# Altium footprint library EPS.PcbLib: 38 footprints (part 2 of 3)
Each footprint in its own frame and in the unit in brackets; x right, y up, seen from the top. Pads: shape width x height; smd on the part's side, far side on the other; paste and mask are expansions set on the pad; w line width, h text height; cw(c..) or ccw(c..) is an arc to the next point about the centre after c.
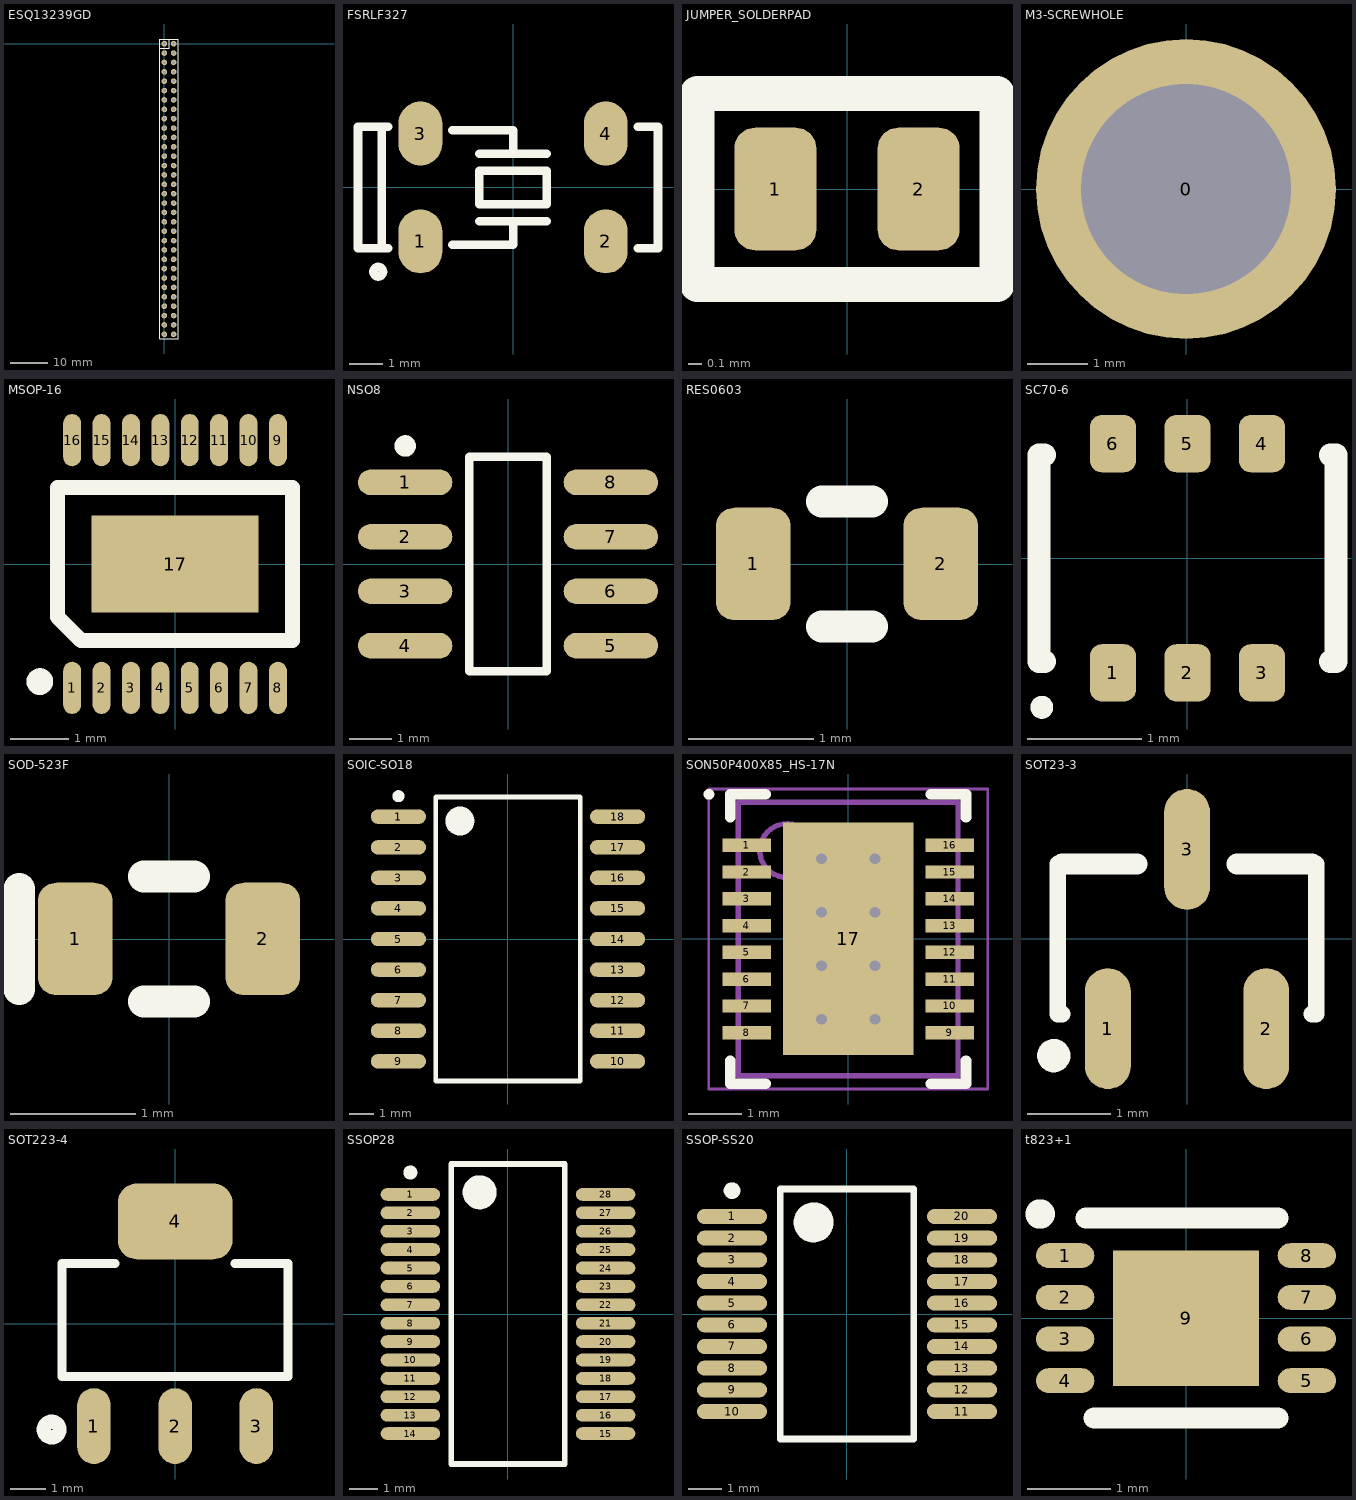
[diagram p1: the footprints below, top view; thin cyan lines are the x and y axes]

## ESQ13239GD [mil] "Samtec 2.54mm 64 Way 2 Row Straight PCB Socket Through Hole Board to Board"
height 435.04
pads (64):
  round 60 hole 31.5: 1(0,0) 2(0,-100) 3(0,-200) 4(0,-300) 5(0,-400) 6(0,-500) 7(0,-600) 8(0,-700) 9(0,-800) 10(0,-900) 11(0,-1000) 12(0,-1100) 13(0,-1200) 14(0,-1300) 15(0,-1400) 16(0,-1500) 17(0,-1600) 18(0,-1700) 19(0,-1800) 20(0,-1900) 21(0,-2000) 22(0,-2100) 23(0,-2200) 24(0,-2300) 25(0,-2400) 26(0,-2500) 27(0,-2600) 28(0,-2700) 29(0,-2800) 30(0,-2900) 31(0,-3000) 32(0,-3100) 33(100,0) 34(100,-100) 35(100,-200) 36(100,-300) 37(100,-400) 38(100,-500) 39(100,-600) 40(100,-700) 41(100,-800) 42(100,-900) 43(100,-1000) 44(100,-1100) 45(100,-1200) 46(100,-1300) 47(100,-1400) 48(100,-1500) 49(100,-1600) 50(100,-1700) 51(100,-1800) 52(100,-1900) 53(100,-2000) 54(100,-2100) 55(100,-2200) 56(100,-2300) 57(100,-2400) 58(100,-2500) 59(100,-2600) 60(100,-2700) 61(100,-2800) 62(100,-2900) 63(100,-3000) 64(100,-3100)
Top Overlay:
  lines w10: -50,-50 50,-50 50,50 ; -50,-3150 150,-3150 150,50 -50,50 -50,-3150
3D body: height 435.43, standoff -479.53, extent -50,-3160.04 144.88,60.04

## FSRLF327 [mm] "CRISTAL, 32.768KHZ, SMD"
height 2.5
pads (4):
  oval 1.3x1.9 smd: 1(-2.75,-1.6) 2(2.75,-1.6) 3(-2.75,1.6) 4(2.75,1.6)
Top Overlay:
  circle w0.254: c-4,-2.5 r0.141
  lines w0.254: -3.9,-1.8 -3.9,1.8 ; -3.7,-1.8 -4.6,-1.8 -4.6,1.8 -3.7,1.8 ; -1.8,-1.7 0,-1.7 0,-1 ; -1.8,1.7 0,1.7 0,1 ; -1,-1 1,-1 ; -1,1 1,1 ; 3.7,-1.8 4.3,-1.8 4.3,1.8 3.7,1.8 ; -1,-0.5 -1,0.5 1,0.5 1,-0.5 -1,-0.5
3D body: height 2.4, standoff 0, extent -4.35,-1.85 4.35,1.85

## JUMPER_SOLDERPAD [mm]
pads (2):
  rrect50% 0.6x0.9 smd: 1(-0.525,0) 2(0.525,0)
Top Overlay:
  lines w0.254: -1.1,-0.7 -1.1,0.7 1.1,0.7 1.1,-0.7 -1.1,-0.7

## M3-SCREWHOLE [mm]
pads (1):
  round 5 hole 3.5: 0(0,0)

## MSOP-16 [mm] "16-Lead Plastic MSOP, Exposed Die Pad"
pads (17):
  oval 0.305x0.889 smd: 1(-1.75,-2.107) 2(-1.25,-2.107) 3(-0.75,-2.107) 4(-0.25,-2.107) 5(0.25,-2.107) 6(0.75,-2.107) 7(1.25,-2.107) 8(1.75,-2.107) 9(1.75,2.107) 10(1.25,2.107) 11(0.75,2.107) 12(0.25,2.107) 13(-0.25,2.107) 14(-0.75,2.107) 15(-1.25,2.107) 16(-1.75,2.107)
  rect 2.845x1.651 smd: 17(0,0)
Top Overlay:
  circle w0.254: c-2.3,-2 r0.1
  lines w0.254: -2,-0.9 -1.6,-1.3 2,-1.3 2,1.3 -2,1.3 -2,-0.9
3D body: height 0.96, standoff 0.1, extent -2.019,-2.45 2.02,2.45

## NSO8 [mm] "SOIC, 8-Leads, Body 4.9x3.9mm, Pitch 1.27mm, IPC Medium Density"
height 1.75
pads (8):
  oval 2.2x0.6 smd: 1(-2.4,1.905) 2(-2.4,0.635) 3(-2.4,-0.635) 4(-2.4,-1.905) 5(2.4,-1.905) 6(2.4,-0.635) 7(2.4,0.635) 8(2.4,1.905)
Top Overlay:
  circle w0.25: c-2.4,2.755 r0.125
  lines w0.2: -0.9,-2.5 -0.9,2.5 0.9,2.5 0.9,-2.5 -0.9,-2.5
3D body: height 1.75, standoff -0.01, extent -3.099,-2.5 3.1,2.5

## RES0603 [mm] "Resistor Chip Inductor, Body 0.6x0.3mm, IPC High Density"
height 0.55
pads (2):
  rrect50% 0.6x0.9 smd: 1(-0.75,0) 2(0.75,0)
Top Overlay:
  lines w0.254: -0.2,-0.5 0.2,-0.5 ; -0.2,0.5 0.2,0.5
3D body: height 0.76, standoff -0.01, extent -0.762,-0.381 0.762,0.381

## SC70-6 [mm] "6-Lead Thin Shrink Small Outline Transistor Package"
height 1.45
pads (6):
  rrect50% 0.4x0.5 smd: 1(-0.65,-1) 2(0,-1) 3(0.65,-1) 4(0.65,1) 5(0,1) 6(-0.65,1)
Top Overlay:
  circle w0.1: c-1.271,-1.3 r0.05
  lines w0.2: -1.246,-0.9 -1.296,-0.9 -1.296,0.9 -1.246,0.9 ; 1.246,-0.9 1.296,-0.9 1.296,0.9 1.246,0.9
3D body: height 0.92, standoff -0.03, extent -1,-1.05 1,1.05

## SOD-523F [mm]
height 0.85
pads (2):
  rrect50% 0.6x0.9 smd: 1(-0.75,0) 2(0.75,0)
Top Overlay:
  lines w0.254: -1.2,-0.4 -1.2,0.4 ; -0.2,-0.5 0.2,-0.5 ; -0.2,0.5 0.2,0.5
3D body: height 0.7, standoff 0, extent -0.85,-0.45 0.85,0.45

## SOIC-SO18 [mm] "SOIC, 18-Leads, Body 11.5x7.5mm, Pitch 1.27mm, IPC Medium Density"
height 2.65
pads (18):
  oval 2.3x0.6 smd: 1(-4.55,5.08) 2(-4.55,3.81) 3(-4.55,2.54) 4(-4.55,1.27) 5(-4.55,0) 6(-4.55,-1.27) 7(-4.55,-2.54) 8(-4.55,-3.81) 9(-4.55,-5.08) 10(4.55,-5.08) 11(4.55,-3.81) 12(4.55,-2.54) 13(4.55,-1.27) 14(4.55,0) 15(4.55,1.27) 16(4.55,2.54) 17(4.55,3.81) 18(4.55,5.08)
Top Overlay:
  circle w0.6: c-2,4.9 r0.3
  circle w0.25: c-4.55,5.93 r0.125
  lines w0.2: -3,-5.9 3,-5.9 3,5.9 -3,5.9 -3,-5.9
3D body: height 2.57, standoff -0.03, extent -5.3,-5.875 5.3,5.875

## SON50P400X85_HS-17N [mm] "SON, 16-Leads, Body 5.00x4.00mm, Pitch 0.50mm, Thermal Pad 4.34x2.44mm, IPC Medium Density"
height 0.85
pads (17):
  rect 0.9x0.25 smd mask+0: 1(-1.895,1.75) 2(-1.895,1.25) 3(-1.895,0.75) 4(-1.895,0.25) 5(-1.895,-0.25) 6(-1.895,-0.75) 7(-1.895,-1.25) 8(-1.895,-1.75) 9(1.895,-1.75) 10(1.895,-1.25) 11(1.895,-0.75) 12(1.895,-0.25) 13(1.895,0.25) 14(1.895,0.75) 15(1.895,1.25) 16(1.895,1.75)
  rect 2.44x4.34 smd paste-1.22 mask+0: 17(0,0)
via 0.5,-1.5 diameter 0.5 hole 0.2
via -0.5,-1.5 diameter 0.5 hole 0.2
via 0.5,-0.5 diameter 0.5 hole 0.2
via -0.5,-0.5 diameter 0.5 hole 0.2
via 0.5,0.5 diameter 0.5 hole 0.2
via -0.5,0.5 diameter 0.5 hole 0.2
via 0.5,1.5 diameter 0.5 hole 0.2
via -0.5,1.5 diameter 0.5 hole 0.2
Top Overlay:
  circle w0.1: c-2.6,2.7 r0.05
  lines w0.2: -2.2,-2.275 -2.2,-2.7 -1.545,-2.7 ; -2.2,2.275 -2.2,2.7 -1.545,2.7 ; 1.545,-2.7 2.2,-2.7 2.2,-2.275 ; 1.545,2.7 2.2,2.7 2.2,2.275
Top Paste:
  rectangle: 0.1,-2.075 1.12,-0.825
  rectangle: 0.1,-0.625 1.12,0.625
  rectangle: 0.1,0.825 1.12,2.075
  rectangle: -1.12,-2.075 -0.1,-0.825
  rectangle: -1.12,-0.625 -0.1,0.625
  rectangle: -1.12,0.825 -0.1,2.075
Mechanical 13:
  circle w0.1: c-1.15,1.65 r0.5
  lines w0.1: -2.05,-2.55 2.05,-2.55 2.05,2.55 -2.05,2.55 -2.05,-2.55
Mechanical 15:
  lines w0.05: -2.605,-2.8 2.605,-2.8 2.605,2.8 -2.605,2.8 -2.605,-2.8
  lines w0.1: -0.5,0 0.5,0 ; 0,-0.5 0,0.5
3D body: height 0.85, standoff 0, extent -2.05,-2.55 2.05,2.55

## SOT23-3 [mm] "SOT-23-3; 3 Leads; Body 3 x 3 mm, inc. leads (LxW max)"
height 1.45
pads (3):
  oval 0.55x1.45 smd: 1(-0.95,-1.075) 2(0.95,-1.075) 3(0,1.075)
Top Overlay:
  circle w0.2: c-1.6,-1.4 r0.1
  lines w0.2: -1.5,-0.9 -1.55,-0.9 -1.55,0.9 -1.5,0.9 ; 1.5,-0.9 1.55,-0.9 1.55,0.9 1.5,0.9
  lines w0.254: -1.5,0.9 -0.6,0.9 ; 0.6,0.9 1.5,0.9
3D body: height 1.09, standoff 0, extent -1.5,-1.25 1.5,1.25

## SOT223-4 [mm]
height 1.8
pads (4):
  oval 0.95x2.15 smd: 1(-2.3,-2.9) 2(0,-2.9) 3(2.3,-2.9)
  rrect50% 3.25x2.15 smd: 4(0,2.9)
Top Overlay:
  circle w0.4: c-3.5,-3 r0.224
  lines w0.254: -1.7,1.7 -3.2,1.7 -3.2,-1.5 3.2,-1.5 3.2,1.7 1.7,1.7
3D body: height 1.64, standoff -0.01, extent -3.25,-3.5 3.25,3.5

## SSOP28 [mm] "SOP, 28-Leads, Body 10.2x5.3mm, Pitch 0.65mm, IPC Medium Density"
height 1.99
pads (28):
  oval 2.1x0.45 smd: 1(-3.45,4.225) 2(-3.45,3.575) 3(-3.45,2.925) 4(-3.45,2.275) 5(-3.45,1.625) 6(-3.45,0.975) 7(-3.45,0.325) 8(-3.45,-0.325) 9(-3.45,-0.975) 10(-3.45,-1.625) 11(-3.45,-2.275) 12(-3.45,-2.925) 13(-3.45,-3.575) 14(-3.45,-4.225) 15(3.45,-4.225) 16(3.45,-3.575) 17(3.45,-2.925) 18(3.45,-2.275) 19(3.45,-1.625) 20(3.45,-0.975) 21(3.45,-0.325) 22(3.45,0.325) 23(3.45,0.975) 24(3.45,1.625) 25(3.45,2.275) 26(3.45,2.925) 27(3.45,3.575) 28(3.45,4.225)
Top Overlay:
  circle w0.6: c-1,4.3 r0.3
  circle w0.25: c-3.45,5 r0.125
  lines w0.2: -2,-5.3 2,-5.3 2,5.3 -2,5.3 -2,-5.3
3D body: height 2.15, standoff 0, extent -3.878,-5.165 3.878,5.165

## SSOP-SS20 [mm] "SOP, 20-Leads, Body 7.2x5.2mm, Pitch 0.65mm, IPC Medium Density"
height 2
pads (20):
  oval 2.1x0.45 smd: 1(-3.45,2.925) 2(-3.45,2.275) 3(-3.45,1.625) 4(-3.45,0.975) 5(-3.45,0.325) 6(-3.45,-0.325) 7(-3.45,-0.975) 8(-3.45,-1.625) 9(-3.45,-2.275) 10(-3.45,-2.925) 11(3.45,-2.925) 12(3.45,-2.275) 13(3.45,-1.625) 14(3.45,-0.975) 15(3.45,-0.325) 16(3.45,0.325) 17(3.45,0.975) 18(3.45,1.625) 19(3.45,2.275) 20(3.45,2.925)
Top Overlay:
  circle w0.25: c-3.45,3.7 r0.125
  circle w0.6: c-1,2.75 r0.3
  lines w0.2: -2,-3.75 -2,3.75 2,3.75 2,-3.75 -2,-3.75
3D body: height 1.98, standoff -0.01, extent -3.95,-3.25 3.95,3.25

## t823+1 [mm] "Package Land Pattern"
height 0.75
pads (9):
  oval 0.7x0.3 smd: 1(-1.45,0.75) 2(-1.45,0.25) 3(-1.45,-0.25) 4(-1.45,-0.75) 5(1.45,-0.75) 6(1.45,-0.25) 7(1.45,0.25) 8(1.45,0.75)
  rect 1.75x1.63 smd: 9(0,0)
Top Overlay:
  circle w0.254: c-1.75,1.25 r0.05
  lines w0.254: -1.2,1.2 1.1,1.2 ; -1.1,-1.2 1.1,-1.2
3D body: height 0.81, standoff 0.01, extent -1.5,-1 1.5,1